# EAGLE library part CC2540-MINI-BLE (library cc2540)
CC2540-MINI-BLE Bluetooth 4.0 module
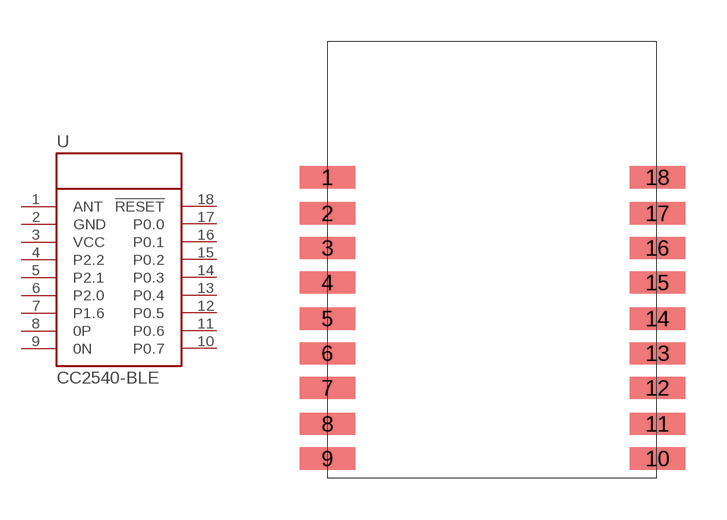
[diagram p0: symbol with the pads of CC2540-MINI-BLE; footprint CC2540-MINI-BLE]

Designator prefix -

## CC2540-MINI-BLE  [CC2540-MINI-BLE]
1  ANT
2  GND  pwr
3  VCC  pwr
4  P2.2
5  P2.1
6  P2.0
7  P1.6
8  0P
9  0N
10  P0.7
11  P0.6
12  P0.5
13  P0.4
14  P0.3
15  P0.2
16  P0.1
17  P0.0
18  !RESET  in

## Footprint CC2540-MINI-BLE (pad centres in mm)
smd 2 x 0.8: 1 0,10.85; 2 0,9.55; 3 0,8.3; 4 0,7.05; 5 0,5.75; 6 0,4.5; 7 0,3.25; 8 0,1.95; 9 0,0.7; 10 11.9,0.7; 11 11.9,1.95; 12 11.9,3.25; 13 11.9,4.5; 14 11.9,5.75; 15 11.9,7.05; 16 11.9,8.3; 17 11.9,9.55; 18 11.9,10.85